# Altium schematic symbol library axsem_testpad_v1-5.SCHLIB: 11 symbols
Pins are listed as number, name and electrical type; pins without a type are passive.

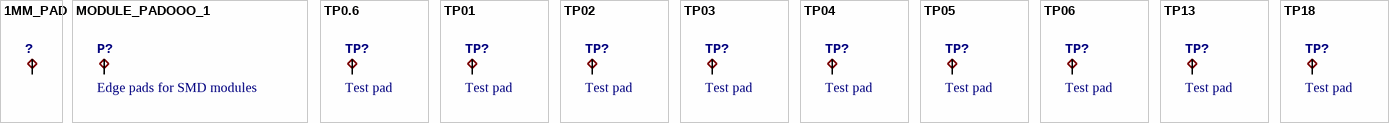
[diagram p0: symbols 1MM_PAD to TP18]

## 1MM_PAD
designator ?
footprint PAD-1MM-PITCH
pins: P$1 TP

## MODULE_PADOOO_1
designator P?, comment Edge pads for SMD modules
footprint OOO-P1
pins: P1A P1B TP

## TP0.6
designator TP?, comment Test pad
footprint PIN-1MM-PITCH-(0.6-DRILL)
pins: P$1 TP

## TP01
designator TP?, comment Test pad
footprint PAD-0.75MM-PITCH
pins: P$1 TP

## TP02
designator TP?, comment Test pad
footprint PAD-0.5MM-PITCH
pins: P$1 TP

## TP03
designator TP?, comment Test pad
footprint PIN-03
pins: P$1 TP

## TP04
designator TP?, comment Test pad
footprint PIN-1MM-PITCH
pins: P1 TP

## TP05
designator TP?, comment Test pad
footprint PAD-1MM-PITCH
pins: P$1 TP

## TP06
designator TP?, comment Test pad
footprint TP06R
pins: TP

## TP13
designator TP?, comment Test pad
footprint P1-13Y
pins: 1 TP

## TP18
designator TP?, comment Test pad
footprint PIN-1.8MM-PITCH-ENOCEAN
pins: P$1 TP